# EAGLE library part ESP32-C6-MINI-1-H4 (library ESP32-C6-MINI-1-H4)
Multiprotocol Modules ESP32-C6 Module, supports Wi-Fi 6 in 2.4 GHz band, Bluetooth 5, Zigbee 3.0 and Thread - -40 to 85C Source: Datasheet <https://www.espressif.com/sites/default/files/documentation/esp32-c6-mini-1_mini-1u_datasheet_en.pdf>
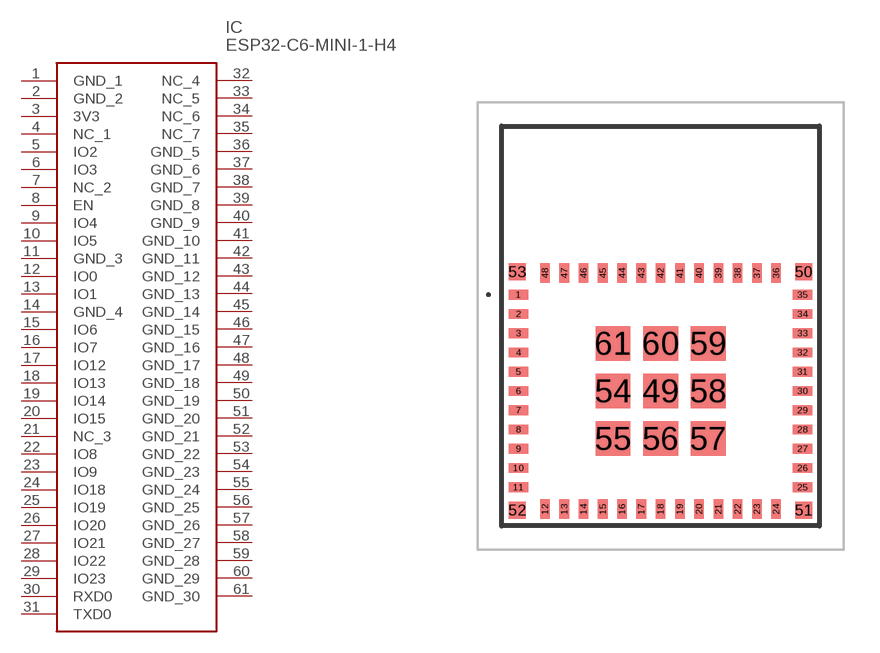
[diagram p0: symbol with the pads of ESP32C6MINI1H4; footprint ESP32C6MINI1H4]

Designator prefix IC

## ESP32-C6-MINI-1-H4 (Description: Multiprotocol Modules ESP32-C6 Module, supports Wi-Fi 6 in 2.4 GHz band, Bluetooth 5, Zigbee 3.0 and Thread - -40 to 85C; Height: 2.55mm; Manufacturer_Name: Espressif Systems; Manufacturer_Part_Number: ESP32-C6-MINI-1-H4; Mouser_Part_Number: 356-ESP32C6MINI1-H4; Mouser_Price-Stock: https://www.mouser.co.uk/ProductDetail/Espressif-Systems/ESP32-C6-MINI-1-H4?qs=Jm2GQyTW%2Fbgg5ClQiAJNHw%3D%3D)  [ESP32C6MINI1H4]
1  GND_1
2  GND_2
3  3V3
4  NC_1
5  IO2
6  IO3
7  NC_2
8  EN
9  IO4
10  IO5
11  GND_3
12  IO0
13  IO1
14  GND_4
15  IO6
16  IO7
17  IO12
18  IO13
19  IO14
20  IO15
21  NC_3
22  IO8
23  IO9
24  IO18
25  IO19
26  IO20
27  IO21
28  IO22
29  IO23
30  RXD0
31  TXD0
32  NC_4
33  NC_5
34  NC_6
35  NC_7
36  GND_5
37  GND_6
38  GND_7
39  GND_8
40  GND_9
41  GND_10
42  GND_11
43  GND_12
44  GND_13
45  GND_14
46  GND_15
47  GND_16
48  GND_17
49  GND_18
50  GND_19
51  GND_20
52  GND_21
53  GND_22
54  GND_23
55  GND_24
56  GND_25
57  GND_26
58  GND_27
59  GND_28
60  GND_29
61  GND_30

## Footprint ESP32C6MINI1H4 (pad centres in mm)
ESP32-C6-MINI-1-H4-1
smd 0.8 x 0.4: 1 -5.9,1.3; 2 -5.9,0.5; 3 -5.9,-0.3; 4 -5.9,-1.1; 5 -5.9,-1.9; 6 -5.9,-2.7; 7 -5.9,-3.5; 8 -5.9,-4.3; 9 -5.9,-5.1; 10 -5.9,-5.9; 11 -5.9,-6.7; 25 5.9,-6.7; 26 5.9,-5.9; 27 5.9,-5.1; 28 5.9,-4.3; 29 5.9,-3.5; 30 5.9,-2.7; 31 5.9,-1.9; 32 5.9,-1.1; 33 5.9,-0.3; 34 5.9,0.5; 35 5.9,1.3
smd 0.4 x 0.8: 12 -4.8,-7.6; 13 -4,-7.6; 14 -3.2,-7.6; 15 -2.4,-7.6; 16 -1.6,-7.6; 17 -0.8,-7.6; 18 0,-7.6; 19 0.8,-7.6; 20 1.6,-7.6; 21 2.4,-7.6; 22 3.2,-7.6; 23 4,-7.6; 24 4.8,-7.6; 36 4.8,2.2; 37 4,2.2; 38 3.2,2.2; 39 2.4,2.2; 40 1.6,2.2; 41 0.8,2.2; 42 0,2.2; 43 -0.8,2.2; 44 -1.6,2.2; 45 -2.4,2.2; 46 -3.2,2.2; 47 -4,2.2; 48 -4.8,2.2
smd 1.45 x 1.45: 49 0,-2.7; 54 -1.975,-2.7; 55 -1.975,-4.675; 56 0,-4.675; 57 1.975,-4.675; 58 1.975,-2.7; 59 1.975,-0.725; 60 0,-0.725; 61 -1.975,-0.725
smd 0.7 x 0.7: 50 5.95,2.25; 51 5.95,-7.65; 52 -5.95,-7.65; 53 -5.95,2.25